# EAGLE library part AST2130402 (library AST2130402)
METZ CONNECT - AST2130402 - Wire-To-Board Terminal Block, 3.5 mm, 4 Ways, 28 AWG, 16 AWG, 1.5 mm, Push In Source: Datasheet <https://media.metz-connect.com/files/171/Data_sheet_AST213.PDF>
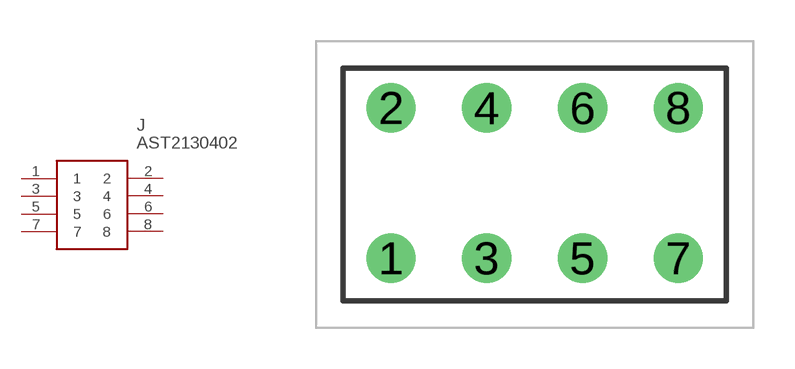
[diagram p0: symbol with the pads of AST2130402; footprint AST2130402]

Designator prefix J

## AST2130402 (Description: METZ CONNECT - AST2130402 - Wire-To-Board Terminal Block, 3.5 mm, 4 Ways, 28 AWG, 16 AWG, 1.5 mm, Push In; Height: 14.2mm; Manufacturer_Name: Metz Connect; Manufacturer_Part_Number: AST2130402)  [AST2130402]
1  1
2  2
3  3
4  4
5  5
6  6
7  7
8  8

## Footprint AST2130402 (pad centres in mm)
AST2130402-1
drill 1.2 pad 1.8: 1 0,0; 2 0,5.5; 3 3.5,0; 4 3.5,5.5; 5 7,0; 6 7,5.5; 7 10.5,0; 8 10.5,5.5